# Altium footprint library 2MS1T2B2M6QES.PcbLib: 1 footprints
Each footprint in its own frame and in the unit in brackets; x right, y up, seen from the top. Pads: shape width x height; smd on the part's side, far side on the other; paste and mask are expansions set on the pad; w line width, h text height; cw(c..) or ccw(c..) is an arc to the next point about the centre after c.
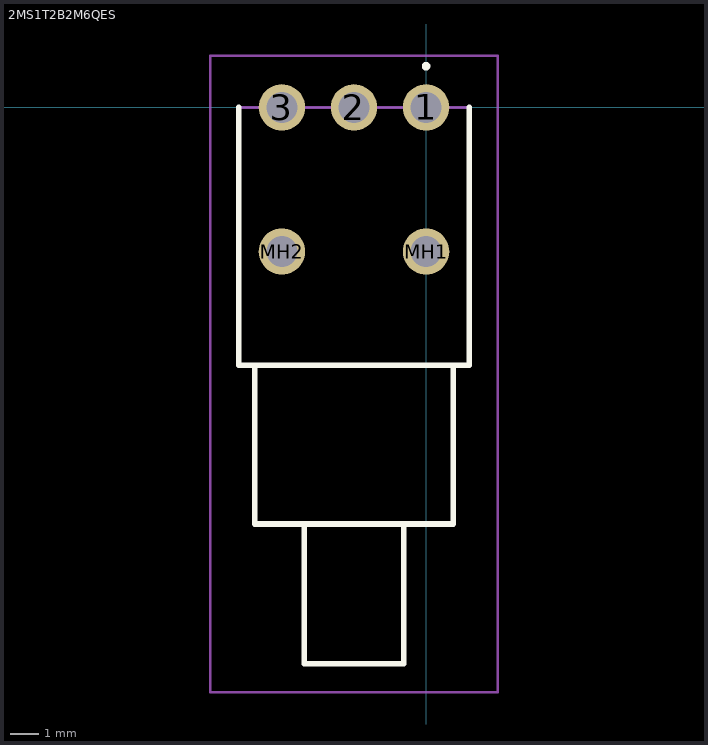
[diagram p0: the footprint, top view; thin cyan lines are the x and y axes]

## 2MS1T2B2M6QES [mm]
pads (5):
  round 1.635 hole 1.09: 1(0,0) 2(-2.54,0) 3(-5.08,0) MH1(0,-5.08) MH2(-5.08,-5.08)
Top Overlay:
  lines w0.2: -6.605,-9.09 -6.605,-9.09 ; -6.605,-9.09 -6.605,0 ; -6.605,-9.09 -6.605,0 ; -6.605,-9.09 1.525,-9.09 ; -6.605,-9.09 -6.605,-9.09 ; -6.605,-9.09 1.525,-9.09 ; -6.605,0 -6.605,0 ; 0,1.4 cw(c0,1.45) 0,1.5 ; 0,1.4 0,1.4 ; 0,1.4 ccw(c0,1.45) 0,1.5 ; 0,1.4 cw(c0,1.45) 0,1.5 ; 0,1.5 0,1.5 ; 0,1.5 0,1.5 ; 1.525,-9.09 1.525,0 ; 1.525,-9.09 1.525,-9.09 ; 1.525,-9.09 1.525,0 ; 1.525,-9.09 1.525,-9.09 ; 1.525,0 1.525,0 ; -6.04,-14.68 0.96,-14.68 0.96,-9.09 -6.04,-9.09 -6.04,-14.68 ; -4.29,-19.61 -0.79,-19.61 -0.79,-14.68 -4.29,-14.68 -4.29,-19.61
Mechanical 15:
  lines w0.1: -6.605,-9.09 1.525,-9.09 1.525,0 -6.605,0 -6.605,-9.09 ; -6.04,-14.68 0.96,-14.68 0.96,-9.09 -6.04,-9.09 -6.04,-14.68 ; -4.29,-19.61 -0.79,-19.61 -0.79,-14.68 -4.29,-14.68 -4.29,-19.61
Mechanical 20:
  lines w0.1: -7.605,-20.61 2.525,-20.61 2.525,1.817 -7.605,1.817 -7.605,-20.61